# EAGLE library part PC104_NO_DIMENSION (library Cubesat)
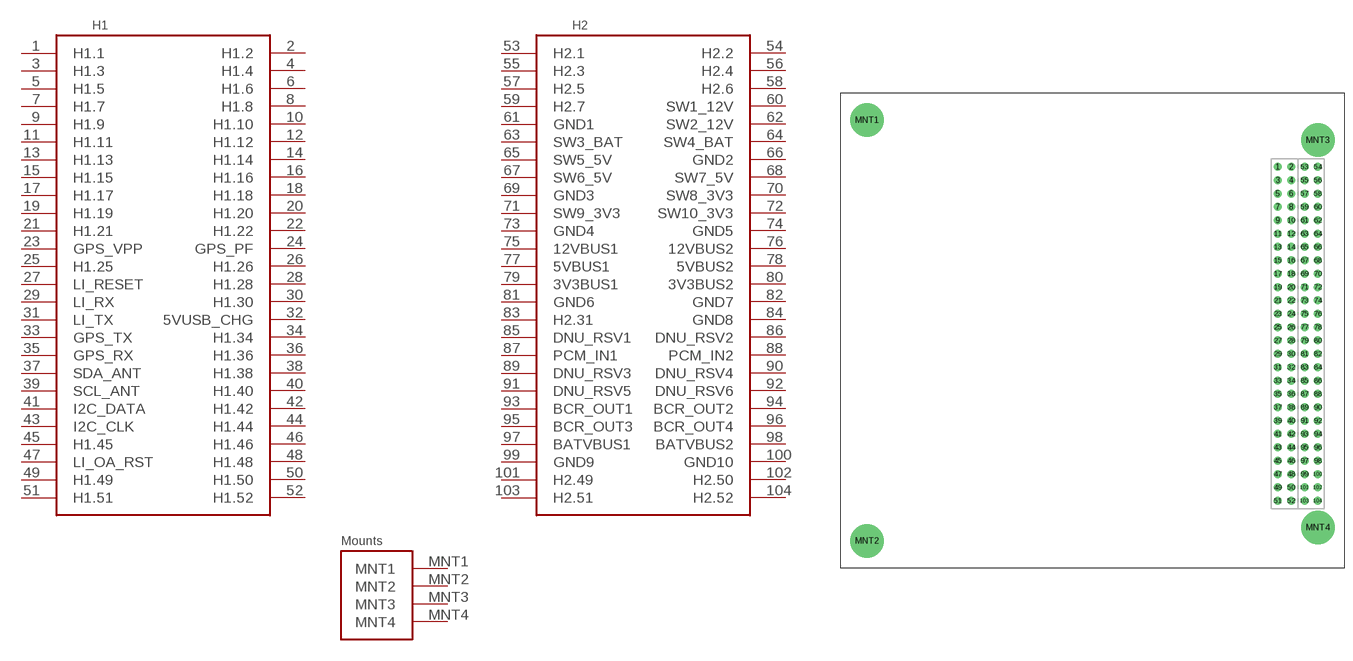
[diagram p4: symbol with the pads of PC104_NO_DIMENSION; footprint PC104_NO_DIMENSION]

Designator prefix -

## PC104_NO_DIMENSION  [PC104_NO_DIMENSION]
1  H1.1
2  H1.2
3  H1.3
4  H1.4
5  H1.5
6  H1.6
7  H1.7
8  H1.8
9  H1.9
10  H1.10
11  H1.11
12  H1.12
13  H1.13
14  H1.14
15  H1.15
16  H1.16
17  H1.17
18  H1.18
19  H1.19
20  H1.20
21  H1.21
22  H1.22
23  GPS_VPP
24  GPS_PF
25  H1.25
26  H1.26
27  LI_RESET
28  H1.28
29  LI_RX
30  H1.30
31  LI_TX
32  5VUSB_CHG
33  GPS_TX
34  H1.34
35  GPS_RX
36  H1.36
37  SDA_ANT
38  H1.38
39  SCL_ANT
40  H1.40
41  I2C_DATA
42  H1.42
43  I2C_CLK
44  H1.44
45  H1.45
46  H1.46
47  LI_OA_RST
48  H1.48
49  H1.49
50  H1.50
51  H1.51
52  H1.52
53  H2.1
54  H2.2
55  H2.3
56  H2.4
57  H2.5
58  H2.6
59  H2.7
60  SW1_12V
61  GND1
62  SW2_12V
63  SW3_BAT
64  SW4_BAT
65  SW5_5V
66  GND2
67  SW6_5V
68  SW7_5V
69  GND3
70  SW8_3V3
71  SW9_3V3
72  SW10_3V3
73  GND4
74  GND5
75  12VBUS1
76  12VBUS2
77  5VBUS1
78  5VBUS2
79  3V3BUS1
80  3V3BUS2
81  GND6
82  GND7
83  H2.31
84  GND8
85  DNU_RSV1
86  DNU_RSV2
87  PCM_IN1
88  PCM_IN2
89  DNU_RSV3
90  DNU_RSV4
91  DNU_RSV5
92  DNU_RSV6
93  BCR_OUT1
94  BCR_OUT2
95  BCR_OUT3
96  BCR_OUT4
97  BATVBUS1
98  BATVBUS2
99  GND9
100  GND10
101  H2.49
102  H2.50
103  H2.51
104  H2.52
MNT1  MNT1  pas
MNT2  MNT2  pas
MNT3  MNT3  pas
MNT4  MNT4  pas

## Footprint PC104_NO_DIMENSION (pad centres in mm)
ELEVATED SOCKET, .100 inch(2.54mm) PITCH
drill 1.016 pad 1.524: 1 83.185,76.2; 2 85.725,76.2; 3 83.185,73.66; 4 85.725,73.66; 5 83.185,71.12; 6 85.725,71.12; 7 83.185,68.58; 8 85.725,68.58; 9 83.185,66.04; 10 85.725,66.04; 11 83.185,63.5; 12 85.725,63.5; 13 83.185,60.96; 14 85.725,60.96; 15 83.185,58.42; 16 85.725,58.42; 17 83.185,55.88; 18 85.725,55.88; 19 83.185,53.34; 20 85.725,53.34; 21 83.185,50.8; 22 85.725,50.8; 23 83.185,48.26; 24 85.725,48.26; 25 83.185,45.72; 26 85.725,45.72; 27 83.185,43.18; 28 85.725,43.18; 29 83.185,40.64; 30 85.725,40.64; 31 83.185,38.1; 32 85.725,38.1; 33 83.185,35.56; 34 85.725,35.56; 35 83.185,33.02; 36 85.725,33.02; 37 83.185,30.48; 38 85.725,30.48; 39 83.185,27.94; 40 85.725,27.94; 41 83.185,25.4; 42 85.725,25.4; 43 83.185,22.86; 44 85.725,22.86; 45 83.185,20.32; 46 85.725,20.32; 47 83.185,17.78; 48 85.725,17.78; 49 83.185,15.24; 50 85.725,15.24; 51 83.185,12.7; 52 85.725,12.7; 53 88.265,76.2; 54 90.805,76.2; 55 88.265,73.66; 56 90.805,73.66; 57 88.265,71.12; 58 90.805,71.12; 59 88.265,68.58; 60 90.805,68.58; 61 88.265,66.04; 62 90.805,66.04; 63 88.265,63.5; 64 90.805,63.5; 65 88.265,60.96; 66 90.805,60.96; 67 88.265,58.42; 68 90.805,58.42; 69 88.265,55.88; 70 90.805,55.88; 71 88.265,53.34; 72 90.805,53.34; 73 88.265,50.8; 74 90.805,50.8; 75 88.265,48.26; 76 90.805,48.26; 77 88.265,45.72; 78 90.805,45.72; 79 88.265,43.18; 80 90.805,43.18; 81 88.265,40.64; 82 90.805,40.64; 83 88.265,38.1; 84 90.805,38.1; 85 88.265,35.56; 86 90.805,35.56; 87 88.265,33.02; 88 90.805,33.02; 89 88.265,30.48; 90 90.805,30.48; 91 88.265,27.94; 92 90.805,27.94; 93 88.265,25.4; 94 90.805,25.4; 95 88.265,22.86; 96 90.805,22.86; 97 88.265,20.32; 98 90.805,20.32; 99 88.265,17.78; 100 90.805,17.78; 101 88.265,15.24; 102 90.805,15.24; 103 88.265,12.7; 104 90.805,12.7
drill 3.175 pad 6.35: MNT1 5.08,85.09; MNT2 5.08,5.08; MNT3 90.805,81.28; MNT4 90.805,7.62